# Altium schematic symbol library M8 Minima.SchLib: 4 symbols
Pins are listed as number, name and electrical type; pins without a type are passive.

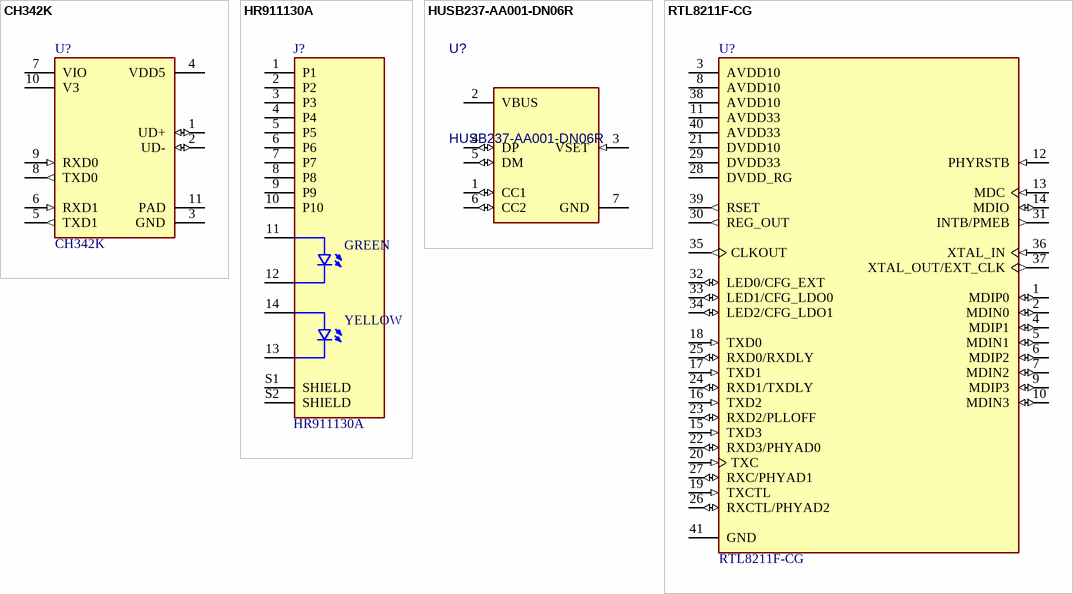
[diagram p0: symbols CH342K to RTL8211F-CG]

## CH342K
designator U?
ESSOP-10-150mil USB Converters ROHS
footprint ESSOP-10_L4.9-W3.9-P1.0-LS6.0-TL-EP
pins: 1 UD+ (io), 2 UD- (io), 3 GND (power), 4 VDD5 (power), 5 TXD1 (out), 6 RXD1 (in), 7 VIO (power), 8 TXD0 (out), 9 RXD0 (in), 10 V3 (power), 11 PAD (power)

## HR911130A
designator J?
MF: hanrun; SnapEDA_Link: https://www.snapeda.com/parts/HR911130A/HanRun/view-part/?ref=snap; Package: None; Value: *; MP: HR911130A; Check_prices: https://www.snapeda.com/parts/HR911130A/HanRun/view-part/?ref=eda
footprint HANRUN_HR911130A
pins: 1 P1, 2 P2, 3 P3, 4 P4, 5 P5, 6 P6, 7 P7, 8 P8, 9 P9, 10 P10, 11, 12, 13, 14, S1 SHIELD, S2 SHIELD
text: GREEN; YELLOW

## HUSB237-AA001-DN06R
designator U?
Type:Power Receiver Controller Protocol:- Number of Channels:- Output Power:100W Output Voltage:5V；20V；15V；12V；9V Voltage - Supply:3V~22V Voltage - Supply:3V~22V Operating Temperature:-40℃~+125℃ Operating Temperature:-40℃~+125℃; Manufacturer: Hynetek(慧能泰); AddInBom: yes; ModelId: 3cc178adeb024a6c8e3bb1bcf2ff5d46ÂŽ0819f05c4eef4c71ace90d822a990e87; ModelName: TDFN-6_L2.0-W2.0-H0.8-P0.65; ModelTransform: 79.527,78.74,0,0,0,0,0,0,0; Output Power: 100W; Voltage - Supply: 3V~22V; Symbol: HUSB237-AA001-DN06R; Device: HUSB237-AA001-DN06R; LCSC Part Name: USB Type-C Power Delivery Sink Controller; SupplierPart: C22373734; ManufacturerPart: HUSB237-AA001-DN06R; Supplier Footprint: DFN-6L-EP(2x2); JLCPCB Part Class: Extended Part; Datasheet: https://item.szlcsc.com/datasheet/HUSB237-AA001-DN06R/23868913.html; Supplier: LCSC; ConvertToPcb: yes; FootprintName: TDFN-6_L2.0-W2.0-P0.65-TL-EP; Type: Power Receiver Controller; Protocol: -; Number of Channels: -; Output Voltage: 5V；20V；15V；12V；9V; Operating Temperature: -40℃~+125℃
footprint TDFN-6_L2.0-W2.0-P0.65-TL-EP
pins: 1 CC1 (io), 2 VBUS (power), 3 VSET (in), 4 DP (io), 5 DM (io), 6 CC2 (io), 7 GND (power)

## RTL8211F-CG
designator U?
GbE PHY with RGMIII interface & EEE feature (Switch Regulator), QFN40; MF: Realtek Semiconductor Corp; SnapEDA_Link: https://www.snapeda.com/parts/RTL8211F-CG/Realtek/view-part/?ref=snap; Package: None; Value: *; MP: RTL8211F-CG; Check_prices: https://www.snapeda.com/parts/RTL8211F-CG/Realtek/view-part/?ref=eda
footprint QFN40P500X500X90-41N
pins: 1 MDIP0 (io), 2 MDIN0 (io), 3 AVDD10 (power), 4 MDIP1 (io), 5 MDIN1 (io), 6 MDIP2 (io), 7 MDIN2 (io), 8 AVDD10 (power), 9 MDIP3 (io), 10 MDIN3 (io), 11 AVDD33 (power), 12 PHYRSTB (in), 13 MDC (in), 14 MDIO (io), 15 TXD3 (in), 16 TXD2 (in), 17 TXD1 (in), 18 TXD0 (in), 19 TXCTL (in), 20 TXC (in), 21 DVDD10 (power), 22 RXD3/PHYAD0 (io), 23 RXD2/PLLOFF (io), 24 RXD1/TXDLY (io), 25 RXD0/RXDLY (io), 26 RXCTL/PHYAD2 (io), 27 RXC/PHYAD1 (io), 28 DVDD_RG (power), 29 DVDD33 (power), 30 REG_OUT (out), 31 INTB/PMEB (out), 32 LED0/CFG_EXT (io), 33 LED1/CFG_LDO0 (io), 34 LED2/CFG_LDO1 (io), 35 CLKOUT (out), 36 XTAL_IN (in), 37 XTAL_OUT/EXT_CLK (out), 38 AVDD10 (power), 39 RSET (out), 40 AVDD33 (power), 41 GND (power)